# EAGLE library part B10B-PH-K (library Connectors_jst)
HEADER
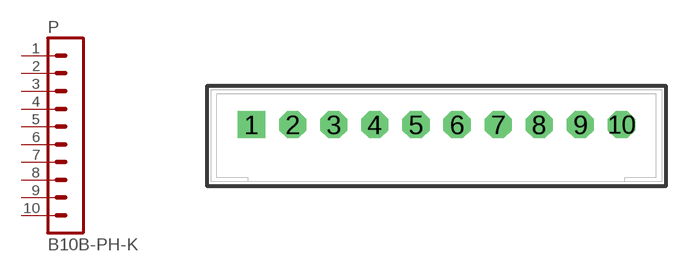
[diagram p4: symbol with the pads of B10B-PH-K; footprint B10B-PH-K]

Designator prefix P

## B10B-PH-K  [B10B-PH-K]
1  1  pas
2  2  pas
3  3  pas
4  4  pas
5  5  pas
6  6  pas
7  7  pas
8  8  pas
9  9  pas
10  10  pas

## Footprint B10B-PH-K (pad centres in mm)
HEADER
drill 0.813 square: 1 -9,0
drill 0.813 octagon: 2 -7,0; 3 -5,0; 4 -3,0; 5 -1,0; 6 1,0; 7 3,0; 8 5,0; 9 7,0; 10 9,0